# EAGLE library part AT27C010-70PU (library AT27C010-70PU)
Microchip Technology AT27C010-70PU, EPROM 1Mbit 128K x 8 bit 70ns 32-Pin PDIP Source: Datasheet <https://componentsearchengine.com/Datasheets/1/AT27C010-70PU.pdf>
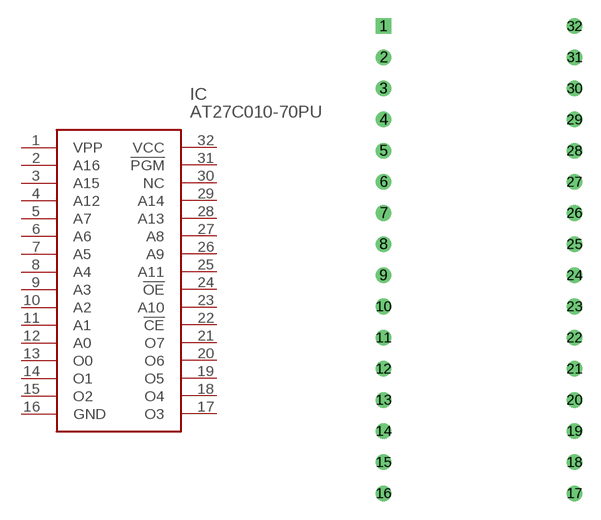
[diagram p0: symbol with the pads of DIP1556W56P254L4204H483Q32N; footprint DIP1556W56P254L4204H483Q32N]

Designator prefix IC

## AT27C010-70PU (ARROW_PART_NUMBER: AT27C010-70PU; ARROW_PRICE-STOCK: https://www.arrow.com/en/products/at27c010-70pu/microchip-technology; DESCRIPTION: Microchip Technology AT27C010-70PU, EPROM 1Mbit 128K x 8 bit 70ns 32-Pin PDIP; HEIGHT: 4.826mm; MANUFACTURER_NAME: Microchip; MANUFACTURER_PART_NUMBER: AT27C010-70PU; MOUSER_PART_NUMBER: 556-AT27C01070PU; MOUSER_PRICE-STOCK: https://www.mouser.co.uk/ProductDetail/Microchip-Technology-Atmel/AT27C010-70PU?qs=lURXKZrvvXcyOgzz37%2FYjw%3D%3D)  [DIP1556W56P254L4204H483Q32N]
1  VPP
2  A16
3  A15
4  A12
5  A7
6  A6
7  A5
8  A4
9  A3
10  A2
11  A1
12  A0
13  O0
14  O1
15  O2
16  GND
17  O3
18  O4
19  O5
20  O6
21  O7
22  !CE
23  A10
24  !OE
25  A11
26  A9
27  A8
28  A13
29  A14
30  NC  nc
31  !PGM
32  VCC

## Footprint DIP1556W56P254L4204H483Q32N (pad centres in mm)
AT27C010-70PU
drill 0.759 pad 1.159 square: 1 -7.779,19.05
drill 0.759 pad 1.159: 2 -7.779,16.51; 3 -7.779,13.97; 4 -7.779,11.43; 5 -7.779,8.89; 6 -7.779,6.35; 7 -7.779,3.81; 8 -7.779,1.27; 9 -7.779,-1.27; 10 -7.779,-3.81; 11 -7.779,-6.35; 12 -7.779,-8.89; 13 -7.779,-11.43; 14 -7.779,-13.97; 15 -7.779,-16.51; 16 -7.779,-19.05; 17 7.779,-19.05; 18 7.779,-16.51; 19 7.779,-13.97; 20 7.779,-11.43; 21 7.779,-8.89; 22 7.779,-6.35; 23 7.779,-3.81; 24 7.779,-1.27; 25 7.779,1.27; 26 7.779,3.81; 27 7.779,6.35; 28 7.779,8.89; 29 7.779,11.43; 30 7.779,13.97; 31 7.779,16.51; 32 7.779,19.05